# EAGLE library part PINHD-1X8 (library Speaker_shield)
PIN HEADER
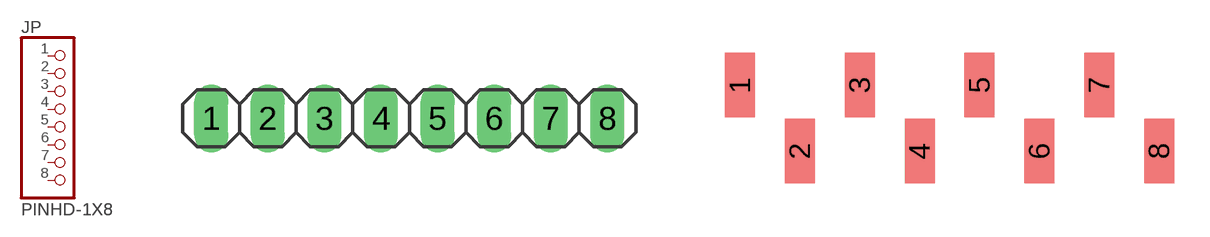
[diagram p2: symbol with the pads of 1X08; footprints 1X08, 1X08SMD]

Designator prefix JP

## PINHD-1X8  [1X08]
1  1  pas
2  2  pas
3  3  pas
4  4  pas
5  5  pas
6  6  pas
7  7  pas
8  8  pas

## PINHD-1X8SMD  [1X08SMD]
Pads as for 1X08

## Footprint 1X08 (pad centres in mm)
PIN HEADER
drill 1.016 long: 1 -8.89,0; 2 -6.35,0; 3 -3.81,0; 4 -1.27,0; 5 1.27,0; 6 3.81,0; 7 6.35,0; 8 8.89,0

## Footprint 1X08SMD (pad centres in mm)
smd 1.27 x 2.73: 1 -8.89,1.4; 2 -6.35,-1.4; 3 -3.81,1.4; 4 -1.27,-1.4; 5 1.27,1.4; 6 3.81,-1.4; 7 6.35,1.4; 8 8.89,-1.4